# Altium schematic symbol library MOSFET.SchLib: 2 symbols
Pins are listed as number, name and electrical type; pins without a type are passive.

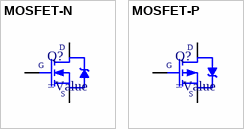
[diagram p0: symbols MOSFET-N to MOSFET-P]

## MOSFET-N
designator Q?
=Description
pins: 1 G, 2 D, 3 S

## MOSFET-P
designator Q?
=Description
pins: 1 G, 2 D, 3 S